# Altium footprint library HT_L293D_Driver.PcbLib: 19 footprints (part 2 of 2)
Each footprint in its own frame and in the unit in brackets; x right, y up, seen from the top. Pads: shape width x height; smd on the part's side, far side on the other; paste and mask are expansions set on the pad; w line width, h text height; cw(c..) or ccw(c..) is an arc to the next point about the centre after c.
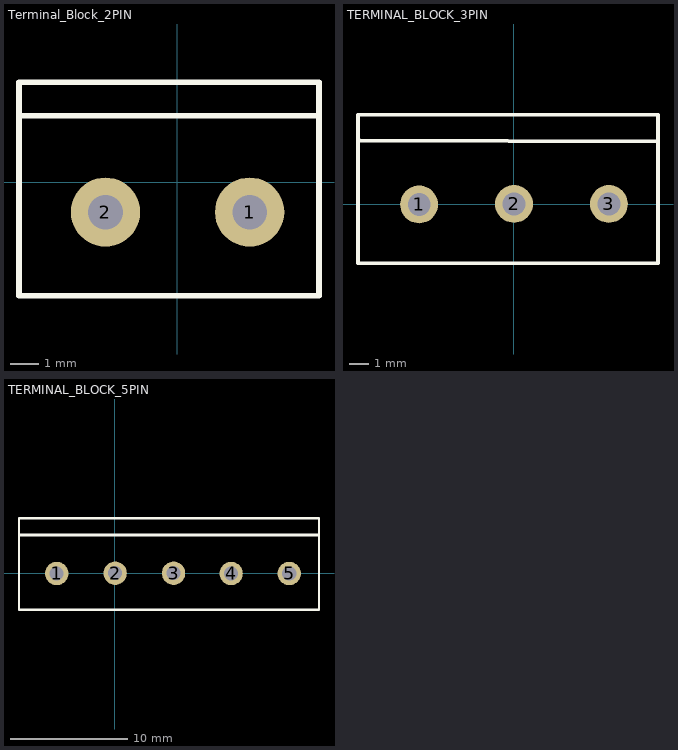
[diagram p1: the footprints below, top view; thin cyan lines are the x and y axes]

## Terminal_Block_2PIN [mm]
pads (2):
  round 2.4 hole 1.2: 1(2.506,-1.03) 2(-2.494,-1.03)
Top Overlay:
  lines w0.2: -5.436,2.311 4.826,2.311 ; -5.491,-3.927 4.909,-3.927 4.909,3.47 -5.491,3.47 -5.491,-3.927
Mechanical 1:
  lines w0.1: -5.381,2.321 4.799,2.321
3D body "User Library-Terminal-Screw-3A-2way.step": height 10.13, standoff -2.87, extent -5.594,-4.03 5.006,3.57

## TERMINAL_BLOCK_3PIN [mm]
pads (3):
  round 2 hole 1.2: 1(-4.978,0) 2(0.025,0.025) 3(5.029,0.025)
Top Overlay:
  lines w0.2: -8.128,3.378 7.569,3.316 ; -8.204,-3.099 7.62,-3.099 7.62,4.724 -8.204,4.724 -8.204,-3.099
3D body "User Library-Terminal-Screw-3A-3way.step": height 10.01, standoff -2.99, extent -8.079,-2.977 7.521,4.623

## TERMINAL_BLOCK_5PIN [mm]
pads (5):
  round 2 hole 1.2: 1(-4.978,0) 2(0.025,0.025) 3(5.029,0.025) 4(9.957,0) 5(14.935,0)
Top Overlay:
  lines w0.2: 17.475,4.724 -8.204,4.724 -8.204,-3.099 17.475,-3.099 17.482,-3.092 17.482,4.623
  lines w0.254: -8.153,3.302 17.348,3.302
3D body "User Library-Terminal-Screw-3A-3way.step": height 10.13, standoff -2.87, extent -8.079,-2.977 7.521,4.623
3D body "User Library-Terminal-Screw-3A-2way.step": height 10.13, standoff -2.87, extent 6.846,-2.987 17.446,4.613